# Altium footprint library PCBFootprint_SMD.PcbLib: 197 footprints (part 10 of 13)
Each footprint in its own frame and in the unit in brackets; x right, y up, seen from the top. Pads: shape width x height; smd on the part's side, far side on the other; paste and mask are expansions set on the pad; w line width, h text height; cw(c..) or ccw(c..) is an arc to the next point about the centre after c.
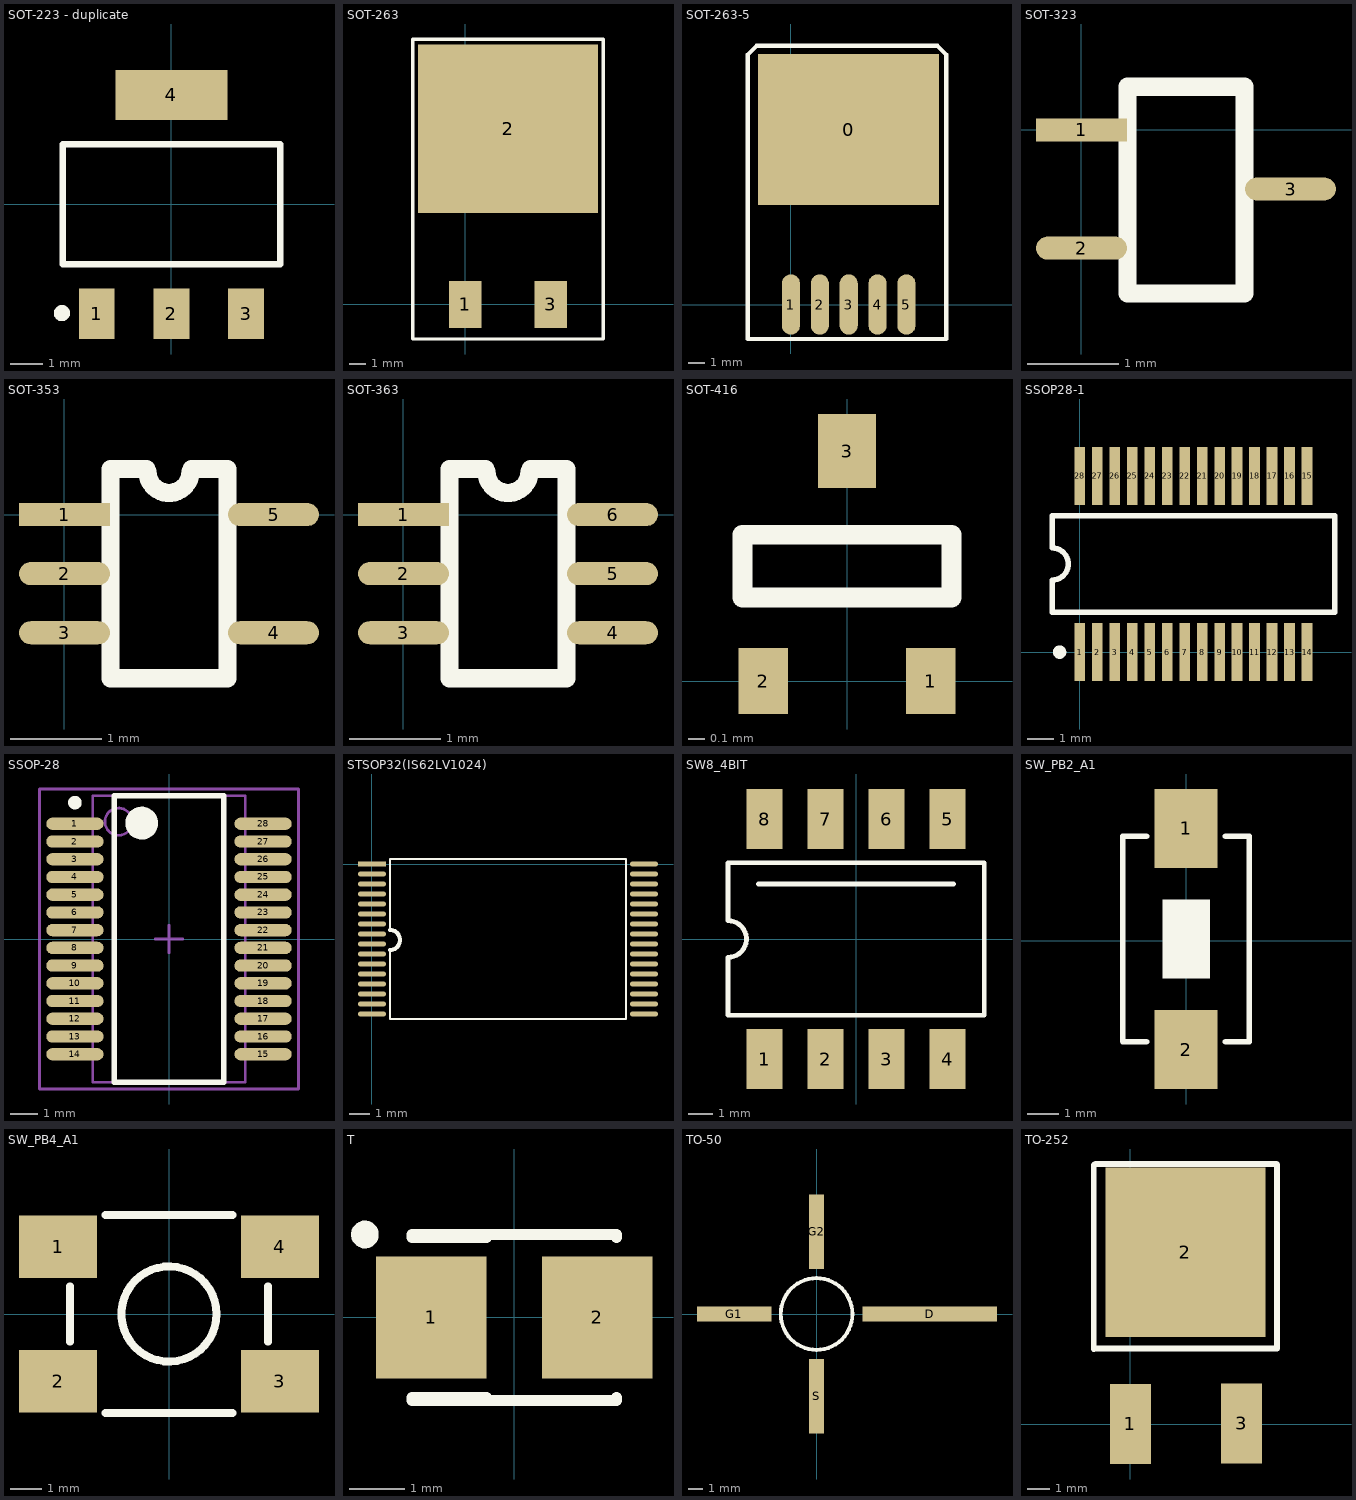
[diagram p9: the footprints below, top view; thin cyan lines are the x and y axes]

## SOT-223 - duplicate [mm]
height 1.8
pads (4):
  rect 1.1x1.55 smd: 1(-2.3,-3.375) 2(0,-3.375) 3(2.3,-3.375)
  rect 3.45x1.55 smd: 4(0,3.375)
Top Overlay:
  circle w0.25: c-3.376,-3.353 r0.125
  lines w0.2: -3.35,-1.85 -3.35,1.85 3.35,1.85 3.35,-1.85 -3.35,-1.85
3D body: height 0.8, standoff 0, extent -3.302,-2.032 3.302,2.159
3D body: height 0.3, standoff 0, extent -1.651,2.159 1.651,3.429
3D body: height 0.3, standoff 0, extent -2.794,-3.937 -1.905,-2.032
3D body: height 0.3, standoff 0, extent -0.508,-3.937 0.381,-2.032
3D body: height 0.3, standoff 0, extent 1.905,-3.937 2.794,-2.032

## SOT-263 [mm]
pads (3):
  rect 1.905x2.8 smd: 1(0,0) 3(5.08,0)
  rect 10.67x10 smd: 2(2.54,10.435)
Top Overlay:
  lines w0.2: -3.11,-2.05 -3.11,15.75 8.19,15.75 8.19,-2.05 -3.11,-2.05

## SOT-263-5 [mil]
pads (6):
  rect 420x350 smd: 0(134,406)
  oval 42x140 smd: 1(0,0) 2(67,0) 3(134,0) 4(201,0) 5(268,0)
Top Overlay:
  lines w10: -100,-80 360,-80 360,580 340,600 -80,600 -100,580 -100,-80

## SOT-323 [mm]
pads (3):
  rect 1x0.254 smd: 1(0,0)
  oval 1x0.254 smd: 2(0,-1.3) 3(2.3,-0.65)
Top Overlay:
  lines w0.2: 0.507,-1.8 1.793,-1.8 1.793,0.475 0.507,0.475 0.507,-1.8

## SOT-353 [mm]
pads (5):
  rect 1x0.254 smd: 1(0,0)
  oval 1x0.254 smd: 2(0,-0.65) 3(0,-1.3) 4(2.3,-1.3) 5(2.3,0)
Top Overlay:
  lines w0.2: 0.507,0.475 0.507,-1.8 1.793,-1.8 1.793,0.475 ; 0.507,0.5 0.9,0.5 ; 0.913,0.475 ccw(c1.15,0.475) 1.388,0.475 ; 1.4,0.5 1.793,0.5

## SOT-363 [mm]
pads (6):
  rect 1x0.254 smd: 1(0,0)
  oval 1x0.254 smd: 2(0,-0.65) 3(0,-1.3) 4(2.3,-1.3) 5(2.3,-0.65) 6(2.3,0)
Top Overlay:
  lines w0.2: 0.507,0.475 0.507,-1.8 1.793,-1.8 1.793,0.475 ; 0.507,0.5 0.9,0.5 ; 0.913,0.475 ccw(c1.15,0.475) 1.388,0.475 ; 1.4,0.5 1.793,0.5

## SOT-416 [mm]
height 0.7
pads (3):
  rect 0.3x0.4 smd: 1(0.508,0) 2(-0.508,0)
  rect 0.35x0.45 smd: 3(0,1.397)
Top Overlay:
  lines w0.12: -0.635,0.508 0.635,0.508 0.635,0.889 -0.635,0.889 -0.635,0.508

## SSOP28-1 [mm]
pads (28):
  rect 0.4x2.15 smd: 1(0,0) 2(0.65,0) 3(1.3,0) 4(1.95,0) 5(2.6,0) 6(3.25,0) 7(3.9,0) 8(4.55,0) 9(5.2,0) 10(5.85,0) 11(6.5,0) 12(7.15,0) 13(7.8,0) 14(8.45,0) 15(8.45,6.55) 16(7.8,6.55) 17(7.15,6.55) 18(6.5,6.55) 19(5.85,6.55) 20(5.2,6.55) 21(4.55,6.55) 22(3.9,6.55) 23(3.25,6.55) 24(2.6,6.55) 25(1.95,6.55) 26(1.3,6.55) 27(0.65,6.55) 28(0,6.55)
Top Overlay:
  circle w0.25: c-0.75,0 r0.125
  lines w0.2: -1.025,1.475 -1.025,2.675 ccw(c-1.025,3.275) -1.025,3.875 -1.025,5.075 9.475,5.075 9.475,1.475 -1.025,1.475

## SSOP-28 [mm] "FT232"
height 2
pads (28):
  oval 2.1x0.45 smd: 1(-3.45,4.225) 2(-3.45,3.575) 3(-3.45,2.925) 4(-3.45,2.275) 5(-3.45,1.625) 6(-3.45,0.975) 7(-3.45,0.325) 8(-3.45,-0.325) 9(-3.45,-0.975) 10(-3.45,-1.625) 11(-3.45,-2.275) 12(-3.45,-2.925) 13(-3.45,-3.575) 14(-3.45,-4.225) 15(3.45,-4.225) 16(3.45,-3.575) 17(3.45,-2.925) 18(3.45,-2.275) 19(3.45,-1.625) 20(3.45,-0.975) 21(3.45,-0.325) 22(3.45,0.325) 23(3.45,0.975) 24(3.45,1.625) 25(3.45,2.275) 26(3.45,2.925) 27(3.45,3.575) 28(3.45,4.225)
Top Overlay:
  circle w0.6: c-1,4.25 r0.3
  circle w0.25: c-3.45,5 r0.125
  lines w0.2: -2,-5.25 2,-5.25 2,5.25 -2,5.25 -2,-5.25
Mechanical 13:
  circle w0.1: c-1.85,4.3 r0.5
  lines w0.1: -2.8,-5.25 2.8,-5.25 2.8,5.25 -2.8,5.25 -2.8,-5.25
Mechanical 15:
  lines w0.1: -0.5,0 0.5,0 ; 0,-0.5 0,0.5 ; -4.75,-5.5 4.75,-5.5 4.75,5.5 -4.75,5.5 -4.75,-5.5
3D body: height 2, standoff 0.09, extent -2.8,-5.25 2.8,5.25

## STSOP32(IS62LV1024) [mm]
pads (32):
  rect 1.4x0.24 smd: 1(0,0)
  oval 1.4x0.24 smd: 2(0,-0.5) 3(0,-1) 4(0,-1.5) 5(0,-2) 6(0,-2.5) 7(0,-3) 8(0,-3.5) 9(0,-4) 10(0,-4.5) 11(0,-5) 12(0,-5.5) 13(0,-6) 14(0,-6.5) 15(0,-7) 16(0,-7.5) 17(13.6,-7.5) 18(13.6,-7) 19(13.6,-6.5) 20(13.6,-6) 21(13.6,-5.5) 22(13.6,-5) 23(13.6,-4.5) 24(13.6,-4) 25(13.6,-3.5) 26(13.6,-3) 27(13.6,-2.5) 28(13.6,-2) 29(13.6,-1.5) 30(13.6,-1) 31(13.6,-0.5) 32(13.6,0)
Top Overlay:
  lines w0.1: 0.9,-4.3 0.9,-7.75 12.7,-7.75 12.7,0.25 7.05,0.25 0.9,0.25 0.9,-3.3
  lines w0.2: 0.9,-4.3 ccw(c0.9,-3.8) 0.9,-3.3

## SW8_4BIT [mm] "贴片拨码开关"
height 1.75
pads (8):
  rect 1.5x2.5 smd: 1(-3.81,-5) 2(-1.27,-5) 3(1.27,-5) 4(3.81,-5) 5(3.81,5) 6(1.27,5) 7(-1.27,5) 8(-3.81,5)
Top Overlay:
  lines w0.2: -4.064,2.286 4.064,2.286 ; -5.334,-3.175 -5.334,-0.762 ccw(c-5.334,0) -5.334,0.762 -5.334,3.175 5.334,3.175 5.334,-3.175 -5.334,-3.175
3D body: height 2, standoff 0, extent -5.207,-3.429 5.08,3.429
3D body: height 2.05, standoff 2, extent -4.572,-2.032 -3.048,2.413
3D body: height 2.05, standoff 2, extent -2.032,-2.032 -0.508,2.413
3D body: height 2.05, standoff 2, extent 0.508,-2.032 2.032,2.413
3D body: height 2.05, standoff 2, extent 3.048,-2.032 4.572,2.413
3D body: height 2.15, standoff 2.05, extent -4.572,0.889 -3.048,2.413
3D body: height 2.15, standoff 2.05, extent -2.032,-2.032 -0.508,-0.508
3D body: height 2.15, standoff 2.05, extent 0.508,0.889 2.032,2.413
3D body: height 2.15, standoff 2.05, extent 3.048,0.889 4.572,2.413

## SW_PB2_A1 [mm]
pads (2):
  rect 2x2.5 smd: 1(0,3.556) 2(0,-3.444)
Top Overlay:
  region: -0.747,1.309 -0.747,-1.191 0.753,-1.191 0.753,1.309
  lines w0.178: -1.25,-3.194 -2,-3.19 -2,3.306 -1.25,3.306 ; 1.25,-3.194 2,-3.194 2,3.306 1.25,3.306
3D body: height 0.8, standoff 0, extent -2.032,-3.175 2.032,3.302
3D body: height 1.2, standoff 0.8, extent -0.762,-1.143 0.762,1.27

## SW_PB4_A1 [mm]
pads (4):
  rect 2.5x2 smd: 1(-3.556,2.159) 2(-3.556,-2.159) 3(3.556,-2.159) 4(3.556,2.159)
Top Overlay:
  circle w0.254: c0,0 r1.524
  lines w0.25: -3.175,-0.889 -3.175,0.889 ; -2.032,-3.175 2.032,-3.175 ; -2.032,3.175 2.032,3.175 ; 3.175,-0.889 3.175,0.889
3D body: height 1.5, standoff 0, extent -3.175,-3.175 3.175,3.175
3D body: height 6, standoff 0, extent -1.524,-1.524 1.524,1.524

## T [mm] "Capacitor, SM Tantalum; Body 3.5 x 2.8 mm (LxW typ)"
height 1.2
pads (2):
  rect 2x2.2 smd: 1(-1.5,0) 2(1.5,0)
Top Overlay:
  circle w0.25: c-2.7,1.5 r0.125
  lines w0.2: -1.85,-1.5 1.85,-1.5 1.85,-1.45 ; -1.85,-1.45 -0.5,-1.45 ; -1.85,1.45 -0.5,1.45 ; -1.85,1.5 1.85,1.5 1.85,1.45

## TO-50 [mm]
pads (4):
  rect 9x1 smd: D(7.575,0)
  rect 5x1 smd: G1(-5.5,0)
  rect 1x5 smd: G2(0,5.5) S(0,-5.5)
Top Overlay:
  circle w0.254: c0,0 r2.4

## TO-252 [mm]
pads (3):
  rect 1.8x3.5 smd: 1(0.009,0.012) 3(4.859,0.037)
  rect 7x7.4 smd: 2(2.409,7.512)
Top Overlay:
  lines w0.254: -1.591,3.287 -1.566,3.312 6.409,3.312 6.409,11.337 6.384,11.362 -1.516,11.362 ; -1.591,3.287 -1.591,11.312